# Altium footprint library Current_Sense_Amplifiers.PcbLib: 1 footprints
Each footprint in its own frame and in the unit in brackets; x right, y up, seen from the top. Pads: shape width x height; smd on the part's side, far side on the other; paste and mask are expansions set on the pad; w line width, h text height; cw(c..) or ccw(c..) is an arc to the next point about the centre after c.
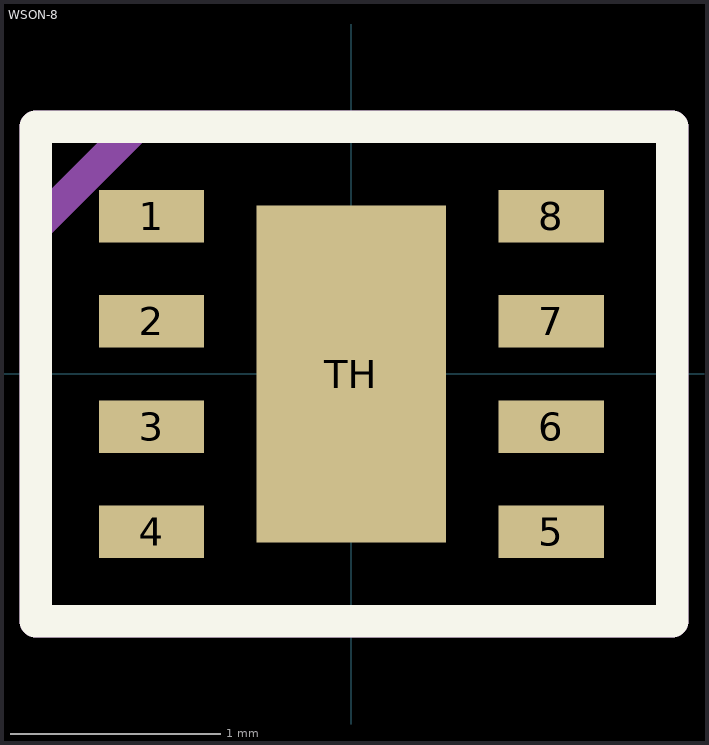
[diagram p0: the footprint, top view; thin cyan lines are the x and y axes]

## WSON-8 [mm]
pads (9):
  rect 0.5x0.25 smd: 1(-0.95,0.75) 2(-0.95,0.25) 3(-0.95,-0.25) 4(-0.95,-0.75) 5(0.95,-0.75) 6(0.95,-0.25) 7(0.95,0.25) 8(0.95,0.75)
  rect 0.9x1.6 smd: TH(0,0)
Top Overlay:
  lines w0.153: -1.5,-1.175 1.525,-1.175 1.525,1.175 -1.5,1.175 -1.5,-1.175
  text "." at -1.972,1.403 h0.8
Top Assembly:
  lines w0.153: -1.5,0.7 -1.025,1.175 ; -1.5,-1.175 -1.5,1.175 1.525,1.175 1.525,-1.175 -1.5,-1.175
  text "'.Designator'" at -1.347,1.595 h0.8
Mechanical 15:
  lines w0.153: -1.5,0.7 -1.025,1.175 ; -0.325,0 0.325,0 ; 0,-0.325 0,0.325 ; -1.5,-1.175 -1.5,1.175 1.525,1.175 1.525,-1.175 -1.5,-1.175
3D body "SON8-2x2mm-1.step": height 0.79, standoff -0.01, extent -1,-1 1,1